# Altium schematic symbol library SCH - CONNECTORS - CLIFF - FCR7350L.SCHLIB: 1 symbol
Pins are listed as number, name and electrical type; pins without a type are passive.

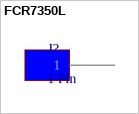
[diagram p0: symbol FCR7350L]

## FCR7350L
designator J?, comment 1 Pin
pins: 1